# Altium footprint library PcbLib_PDB_V1.PcbLib: 44 footprints (part 2 of 3)
Each footprint in its own frame and in the unit in brackets; x right, y up, seen from the top. Pads: shape width x height; smd on the part's side, far side on the other; paste and mask are expansions set on the pad; w line width, h text height; cw(c..) or ccw(c..) is an arc to the next point about the centre after c.
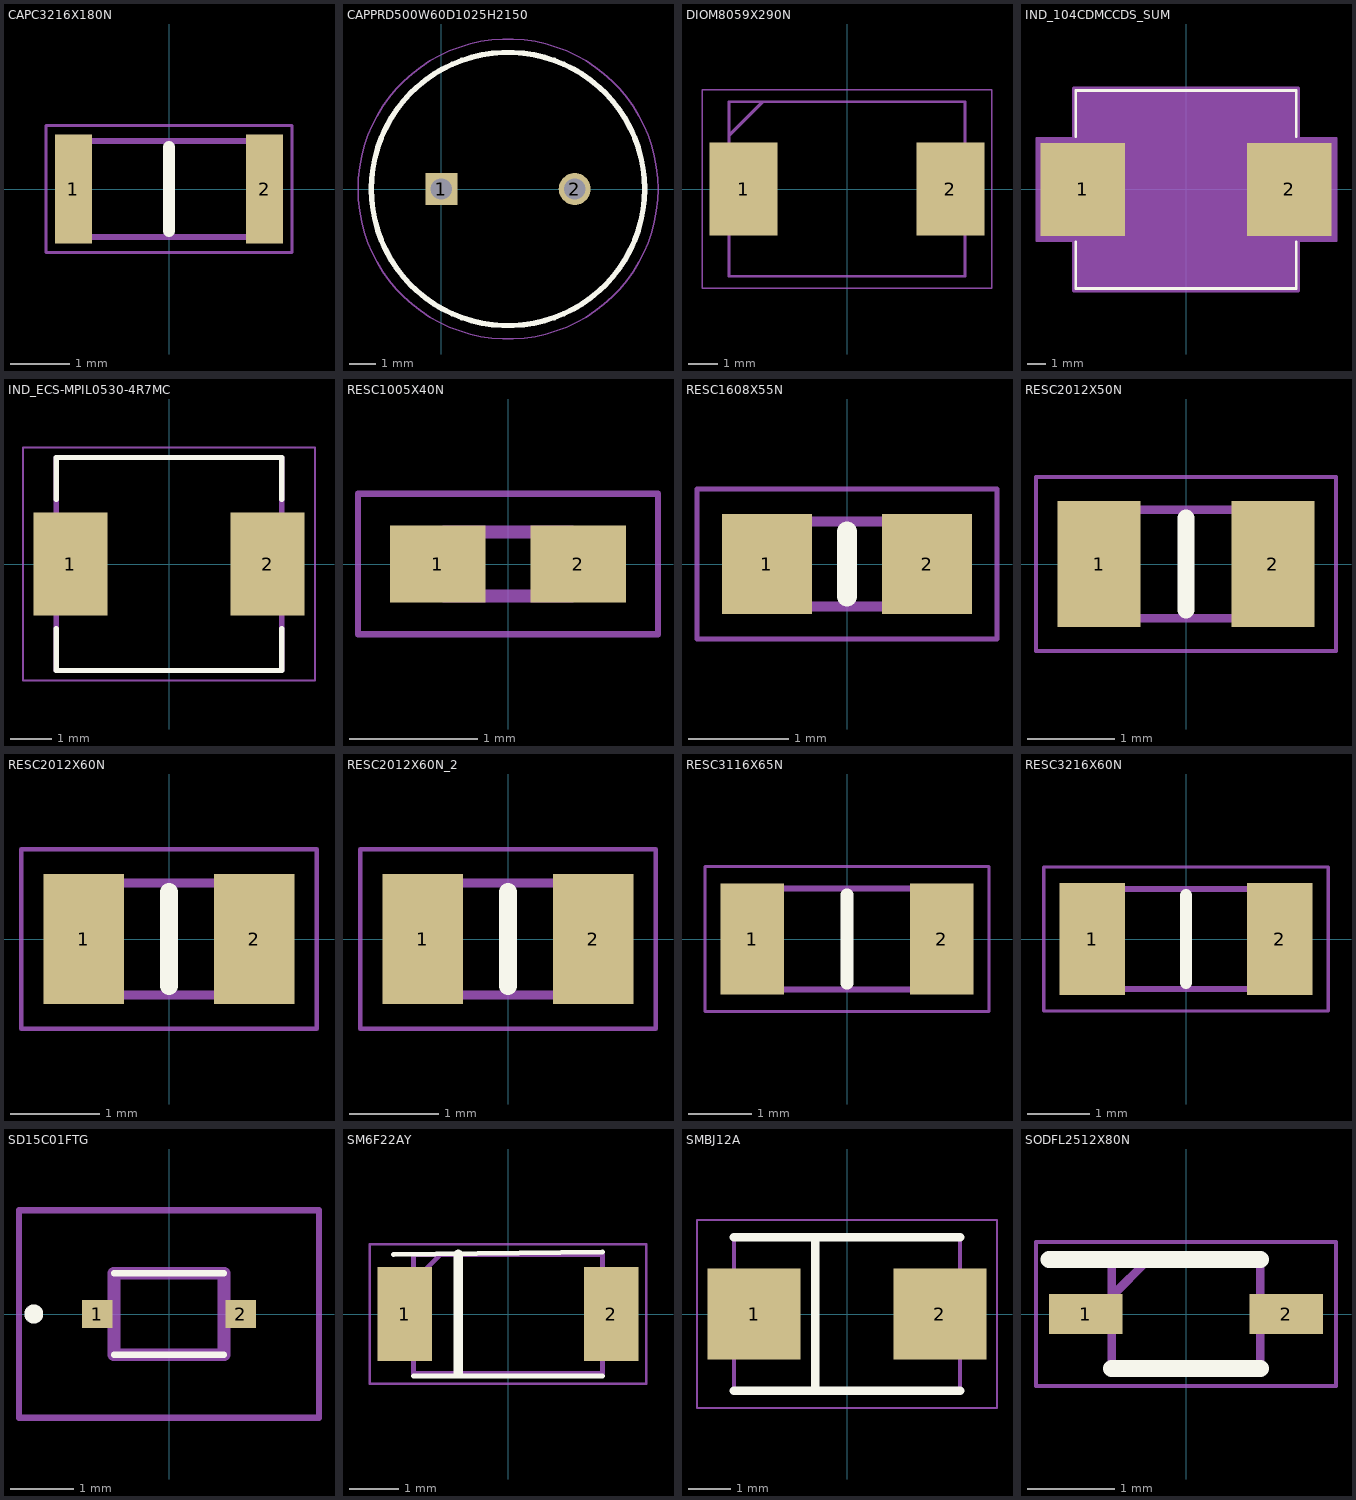
[diagram p1: the footprints below, top view; thin cyan lines are the x and y axes]

## CAPC3216X180N [mm]
pads (2):
  rect 0.62x1.82 smd: 1(-1.6,0) 2(1.6,0)
Top Overlay:
  lines w0.2: 0,-0.7 0,0.7
Mechanical 13:
  lines w0.1: -1.6,-0.8 1.6,-0.8 1.6,0.8 -1.6,0.8 -1.6,-0.8
Mechanical 15:
  lines w0.05: -2.06,-1.06 2.06,-1.06 2.06,1.06 -2.06,1.06 -2.06,-1.06
3D body "C3216X5R1E476M160AC..stp": height 1.6, standoff 0, extent -1.6,-0.8 1.6,0.8

## CAPPRD500W60D1025H2150 [mm]
pads (2):
  rect 1.2x1.2 hole 0.8: 1(0,0)
  round 1.2 hole 0.8: 2(5,0)
Top Overlay:
  circle w0.2: c2.5,0 r5.125
Mechanical 13:
  circle w0.1: c2.5,0 r5.125
Mechanical 15:
  circle w0.05: c2.5,0 r5.625
3D body "35PX1000MEFC10X20.stp": height 21.5, standoff -10, extent -2.75,-5.238 7.75,5.238

## DIOM8059X290N [mm]
pads (2):
  rect 2.3x3.15 smd: 1(-3.5,0) 2(3.5,0)
Mechanical 13:
  lines w0.1: -4,1.802 -2.85,2.952 ; -4,-2.952 4,-2.952 4,2.952 -4,2.952 -4,-2.952
Mechanical 15:
  lines w0.05: -4.9,-3.36 4.9,-3.36 4.9,3.36 -4.9,3.36 -4.9,-3.36
3D body "CDBC540-G.stp": height 2.9, standoff 0, extent -4,-2.953 4,2.953

## IND_104CDMCCDS_SUM [mm]
pads (2):
  rect 4.5x4.954 smd paste+0 mask+0: 1(-5.5,0) 2(5.5,0)
Top Overlay:
  lines w0.152: -5.877,-2.81 -5.877,-5.283 5.877,-5.283 5.877,-2.81 ; -5.877,2.81 -5.877,5.283 5.877,5.283 5.877,2.81
Mechanical 13:
  circle w0: c-3.264,0 r0.076
  lines w0: -0.305,5.156 ccw(c0,5.156) 0.305,5.156
  lines w0.025: -5.75,-5.156 -5.75,5.156 5.75,5.156 5.75,-5.156 -5.75,-5.156
Mechanical 15:
  region: -6.004,-2.731 -8,-2.731 -8,2.731 -6.004,2.731 -6.004,5.41 6.004,5.41 6.004,2.731 8,2.731 8,-2.731 6.004,-2.731 6.004,-5.41 -6.004,-5.41
  lines w0.152: -7.95,-2.731 -6.004,-2.731 -6.004,-5.41 6.004,-5.41 6.004,-2.731 8,-2.731 8,2.731 6.004,2.731 6.004,5.41 -6.004,5.41 -6.004,2.731 -7.95,2.731 -7.95,-2.731
3D body "IND_104CDMCCDS_SUM.step": height 3.99, standoff 0, extent -5.753,-5.156 5.753,5.156

## IND_ECS-MPIL0530-4R7MC [mm]
height 3
pads (2):
  rect 1.8x2.5 smd: 1(-2.4,0) 2(2.4,0)
Top Overlay:
  lines w0.127: -2.745,-1.57 -2.745,-2.59 2.745,-2.59 2.745,-1.57 ; -2.745,1.57 -2.745,2.59 2.745,2.59 2.745,1.57
Mechanical 13:
  lines w0.127: -2.745,-2.59 2.745,-2.59 2.745,2.59 -2.745,2.59 -2.745,-2.59
Mechanical 15:
  lines w0.05: -3.55,-2.84 3.55,-2.84 3.55,2.84 -3.55,2.84 -3.55,-2.84
3D body "step_temp.STEP": height 3, standoff 0, extent -2.745,-2.59 2.745,2.59

## RESC1005X40N [mm]
pads (2):
  rect 0.75x0.6 smd: 1(-0.55,0) 2(0.55,0)
Mechanical 13:
  lines w0.1: -0.5,-0.25 0.5,-0.25 0.5,0.25 -0.5,0.25 -0.5,-0.25
Mechanical 15:
  lines w0.05: -1.175,-0.55 1.175,-0.55 1.175,0.55 -1.175,0.55 -1.175,-0.55
3D body "CRCW04026M65FKED.stp": height 0.35, standoff 0, extent -0.5,-0.25 0.5,0.25

## RESC1608X55N [mm]
pads (2):
  rect 0.9x1 smd: 1(-0.8,0) 2(0.8,0)
Top Overlay:
  lines w0.2: 0,-0.325 0,0.325
Mechanical 13:
  lines w0.1: -0.8,-0.425 -0.8,0.425 0.8,0.425 0.8,-0.425 -0.8,-0.425
Mechanical 15:
  lines w0.05: -1.5,-0.75 -1.5,0.75 1.5,0.75 1.5,-0.75 -1.5,-0.75
3D body "ERJ-3EKF1001V.stp": height 0.45, standoff 0, extent -0.8,-0.4 0.8,0.4

## RESC2012X50N [mm]
pads (2):
  rect 0.95x1.45 smd: 1(-1,0) 2(1,0)
Top Overlay:
  lines w0.2: 0,-0.525 0,0.525
Mechanical 13:
  lines w0.1: -1.025,-0.625 -1.025,0.625 1.025,0.625 1.025,-0.625 -1.025,-0.625
Mechanical 15:
  lines w0.05: -1.725,-1 -1.725,1 1.725,1 1.725,-1 -1.725,-1
3D body "CRCW08052K49FKEAC.stp": height 0.5, standoff 0, extent -1.025,-0.625 1.025,0.625

## RESC2012X60N [mm]
pads (2):
  rect 0.9x1.45 smd: 1(-0.95,0) 2(0.95,0)
Top Overlay:
  lines w0.2: 0,-0.525 0,0.525
Mechanical 13:
  lines w0.1: -1,-0.625 -1,0.625 1,0.625 1,-0.625 -1,-0.625
Mechanical 15:
  lines w0.05: -1.65,-1 -1.65,1 1.65,1 1.65,-1 -1.65,-1
3D body "CRCW08054K70FKEAC.stp": height 0.6, standoff 0, extent -1,-0.625 1,0.625

## RESC2012X60N_2 [mm]
pads (2):
  rect 0.9x1.45 smd: 1(-0.95,0) 2(0.95,0)
Top Overlay:
  lines w0.2: 0,-0.525 0,0.525
Mechanical 13:
  lines w0.1: -1,-0.625 1,-0.625 1,0.625 -1,0.625 -1,-0.625
Mechanical 15:
  lines w0.05: -1.65,-1 1.65,-1 1.65,1 -1.65,1 -1.65,-1
3D body "CRCW08054K70FKEAC.stp": height 0.6, standoff 0, extent -1,-0.625 1,0.625

## RESC3116X65N [mm]
pads (2):
  rect 1x1.75 smd: 1(-1.5,0) 2(1.5,0)
Top Overlay:
  lines w0.2: 0,-0.7 0,0.7
Mechanical 13:
  lines w0.1: -1.55,-0.8 1.55,-0.8 1.55,0.8 -1.55,0.8 -1.55,-0.8
Mechanical 15:
  lines w0.05: -2.25,-1.15 2.25,-1.15 2.25,1.15 -2.25,1.15 -2.25,-1.15
3D body "RC1206FR-076M65L.stp": height 0.65, standoff 0, extent -1.55,-0.8 1.55,0.8

## RESC3216X60N [mm]
pads (2):
  rect 1.05x1.8 smd: 1(-1.5,0) 2(1.5,0)
Top Overlay:
  lines w0.2: 0,-0.7 0,0.7
Mechanical 13:
  lines w0.1: -1.575,-0.8 -1.575,0.8 1.575,0.8 1.575,-0.8 -1.575,-0.8
Mechanical 15:
  lines w0.05: -2.275,-1.15 -2.275,1.15 2.275,1.15 2.275,-1.15 -2.275,-1.15
3D body "CRCW1206287KFKEA.stp": height 0.55, standoff 0, extent -1.42,-0.74 1.78,0.86

## SD15C01FTG [mm]
pads (2):
  rect 0.49x0.45 smd: 1(-1.14,0) 2(1.14,0)
Top Overlay:
  lines w0.1: -0.875,-0.65 0.875,-0.65 -0.875,-0.65 ; -0.875,0.65 0.875,0.65 -0.875,0.65
  lines w0.2: -2.2,0 ccw(c-2.15,0) -2.1,0 ; -2.2,0 cw(c-2.15,0) -2.1,0 ; -2.2,0 ccw(c-2.15,0) -2.1,0
Mechanical 13:
  lines w0.2: -0.875,-0.65 0.875,-0.65 0.875,0.65 -0.875,0.65 -0.875,-0.65
Mechanical 15:
  lines w0.1: -2.385,-1.65 2.385,-1.65 2.385,1.65 -2.385,1.65 -2.385,-1.65
3D body "SD15C-01FTG.stp": height 1, standoff 0, extent -1.312,-0.65 1.312,0.65

## SM6F22AY [mm]
pads (2):
  rect 1.1x1.88 smd: 1(-2.075,0) 2(2.075,0)
Top Overlay:
  lines w0.1: -2.3,1.2 1.9,1.25 ; -1.9,-1.25 1.9,-1.25
  lines w0.2: -1,-1.2 -1,1.2
Mechanical 13:
  lines w0.1: -1.9,0.65 -1.35,1.2 ; -1.9,-1.2 1.9,-1.2 1.9,1.2 -1.9,1.2 -1.9,-1.2
Mechanical 15:
  lines w0.05: -2.775,-1.4 2.775,-1.4 2.775,1.4 -2.775,1.4 -2.775,-1.4
3D body "SM6F23AY.stp": height 0.99, standoff 0, extent -2.191,-1.2 2.191,1.2

## SMBJ12A [mm]
pads (2):
  rect 2.2x2.15 smd: 1(-2.2,0) 2(2.2,0)
Top Overlay:
  lines w0.2: -2.675,-1.812 2.675,-1.812 ; -2.675,1.812 2.675,1.812 ; -0.75,-1.812 -0.75,1.812
Mechanical 13:
  lines w0.1: -2.675,-1.812 2.675,-1.812 2.675,1.812 -2.675,1.812 -2.675,-1.812
Mechanical 15:
  lines w0.05: -3.55,-2.225 3.55,-2.225 3.55,2.225 -3.55,2.225 -3.55,-2.225
3D body "SMBJ6.0A.stp": height 2.33, standoff 0.01, extent -2.675,-1.86 2.675,1.86

## SODFL2512X80N [mm]
pads (2):
  rect 0.84x0.46 smd: 1(-1.15,0) 2(1.15,0)
Top Overlay:
  lines w0.2: -1.57,0.625 0.85,0.625 ; -0.85,-0.625 0.85,-0.625
Mechanical 13:
  lines w0.1: -0.85,0.205 -0.43,0.625 ; -0.85,-0.625 0.85,-0.625 0.85,0.625 -0.85,0.625 -0.85,-0.625
Mechanical 15:
  lines w0.05: -1.72,-0.825 1.72,-0.825 1.72,0.825 -1.72,0.825 -1.72,-0.825
3D body "PMEG6010CEJ,115.stp": height 0.71, standoff 0, extent -1.251,-0.627 1.249,0.623